# Altium schematic symbol library snapcap.Schlib: 1 symbol
Pins are listed as number, name and electrical type; pins without a type are passive.

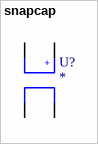
[diagram p0: symbol snapcap]

## snapcap
designator U?
pins: 1 -, 2 -, 4 +, 5 +